# Altium footprint library PCB - LEADED - TO - Comchip TO-269AA MDS.PcbLib: 1 footprints
Each footprint in its own frame and in the unit in brackets; x right, y up, seen from the top. Pads: shape width x height; smd on the part's side, far side on the other; paste and mask are expansions set on the pad; w line width, h text height; cw(c..) or ccw(c..) is an arc to the next point about the centre after c.
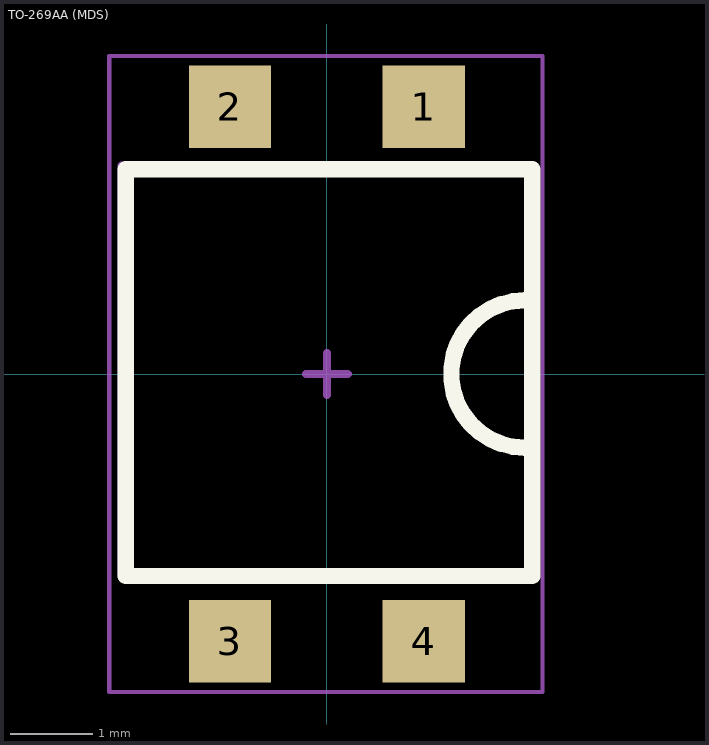
[diagram p0: the footprint, top view; thin cyan lines are the x and y axes]

## TO-269AA (MDS) [mm] "Low VF SMD Schottky Bridge Rectifiers"
pads (4):
  rect 1x1 smd mask+0.05: 1(1.18,3.255) 2(-1.18,3.255) 3(-1.18,-3.255) 4(1.18,-3.255)
Top Overlay:
  lines w0.2: 2.413,-0.898 cw(c2.413,0) 2.413,0.898 ; -2.45,-2.46 -2.45,2.493 2.503,2.493 2.503,-2.46 -2.45,-2.46
  text "." at 1.905,3.175 h1.52
Top Component Center:
  lines w0.1: -0.254,0 0.254,0 ; 0,-0.254 0,0.254
Top Assembly:
  lines w0.1: -2.5,-2.45 -2.5,2.54 2.525,2.54 2.525,-2.45 -2.5,-2.45
Top Courtyard:
  lines w0.05: -2.65,-3.875 -2.65,3.875 2.625,3.875 2.625,-3.875 -2.65,-3.875
3D body "User Library-TO-269AA_jam.step": height 2.7, standoff 0, extent -2.475,-3.52 2.475,3.52